# Altium footprint library FUSAD2200W40L2200D1350.PcbLib: 1 footprints
Each footprint in its own frame and in the unit in brackets; x right, y up, seen from the top. Pads: shape width x height; smd on the part's side, far side on the other; paste and mask are expansions set on the pad; w line width, h text height; cw(c..) or ccw(c..) is an arc to the next point about the centre after c.
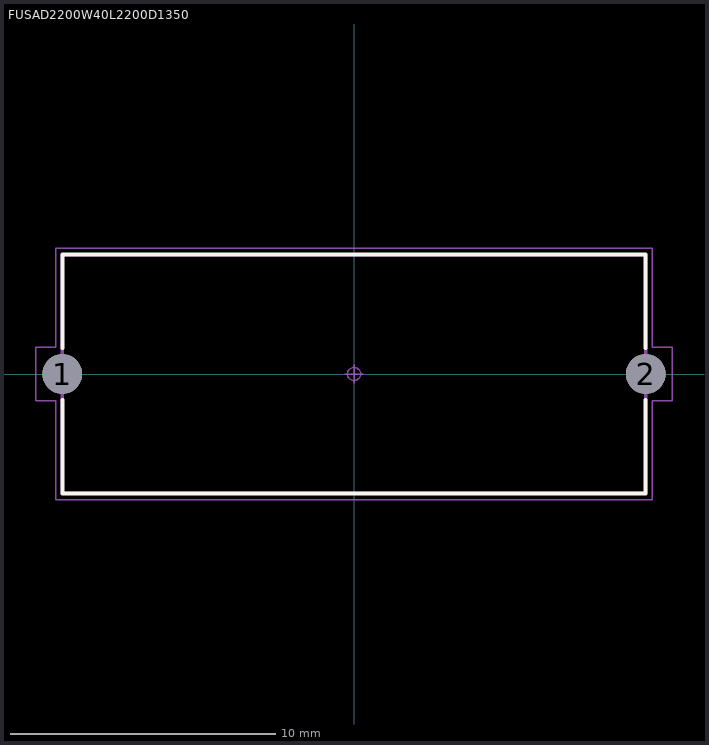
[diagram p0: the footprint, top view; thin cyan lines are the x and y axes]

## FUSAD2200W40L2200D1350 [mm] "Fuse, Axial; 22.00 mm Pitch X 0.40 mm W 22.00 mm L X 13.50 mm Dia. body"
height 13.5
pads (2):
  round 1.5 hole 1.5 paste-1.5: 1(-11,0) 2(11,0)
Top Overlay:
  lines w0.15: -11,-0.975 -11,-4.5 11,-4.5 11,-0.975 ; -11,0.975 -11,4.5 11,4.5 11,0.975
Mechanical 3:
  lines w0.12: -11,-4.5 11,-4.5 11,4.5 -11,4.5 -11,-4.5
Mechanical 5:
  circle w0.025: c11,0 r0.2
  circle w0.025: c-11,0 r0.2
Mechanical 7:
  circle w0.05: c0,0 r0.25
  lines w0.025: -11,-4.5 11,-4.5 11,4.5 -11,4.5 -11,-4.5
  lines w0.05: -0.35,0 0.35,0 ; 0,-0.35 0,0.35 ; -12,-1 -11.25,-1 -11.25,-4.75 11.25,-4.75 11.25,-1 12,-1 12,1 11.25,1 11.25,4.75 -11.25,4.75 -11.25,1 -12,1 -12,-1
3D body "FUSAD2200W40L2200D1350.STEP": height 13.5, standoff -2, extent -11.2,-4.5 11.2,4.5